# Altium footprint library WE-FI.PcbLib: 47 footprints (part 3 of 3)
Each footprint in its own frame and in the unit in brackets; x right, y up, seen from the top. Pads: shape width x height; smd on the part's side, far side on the other; paste and mask are expansions set on the pad; w line width, h text height; cw(c..) or ccw(c..) is an arc to the next point about the centre after c.
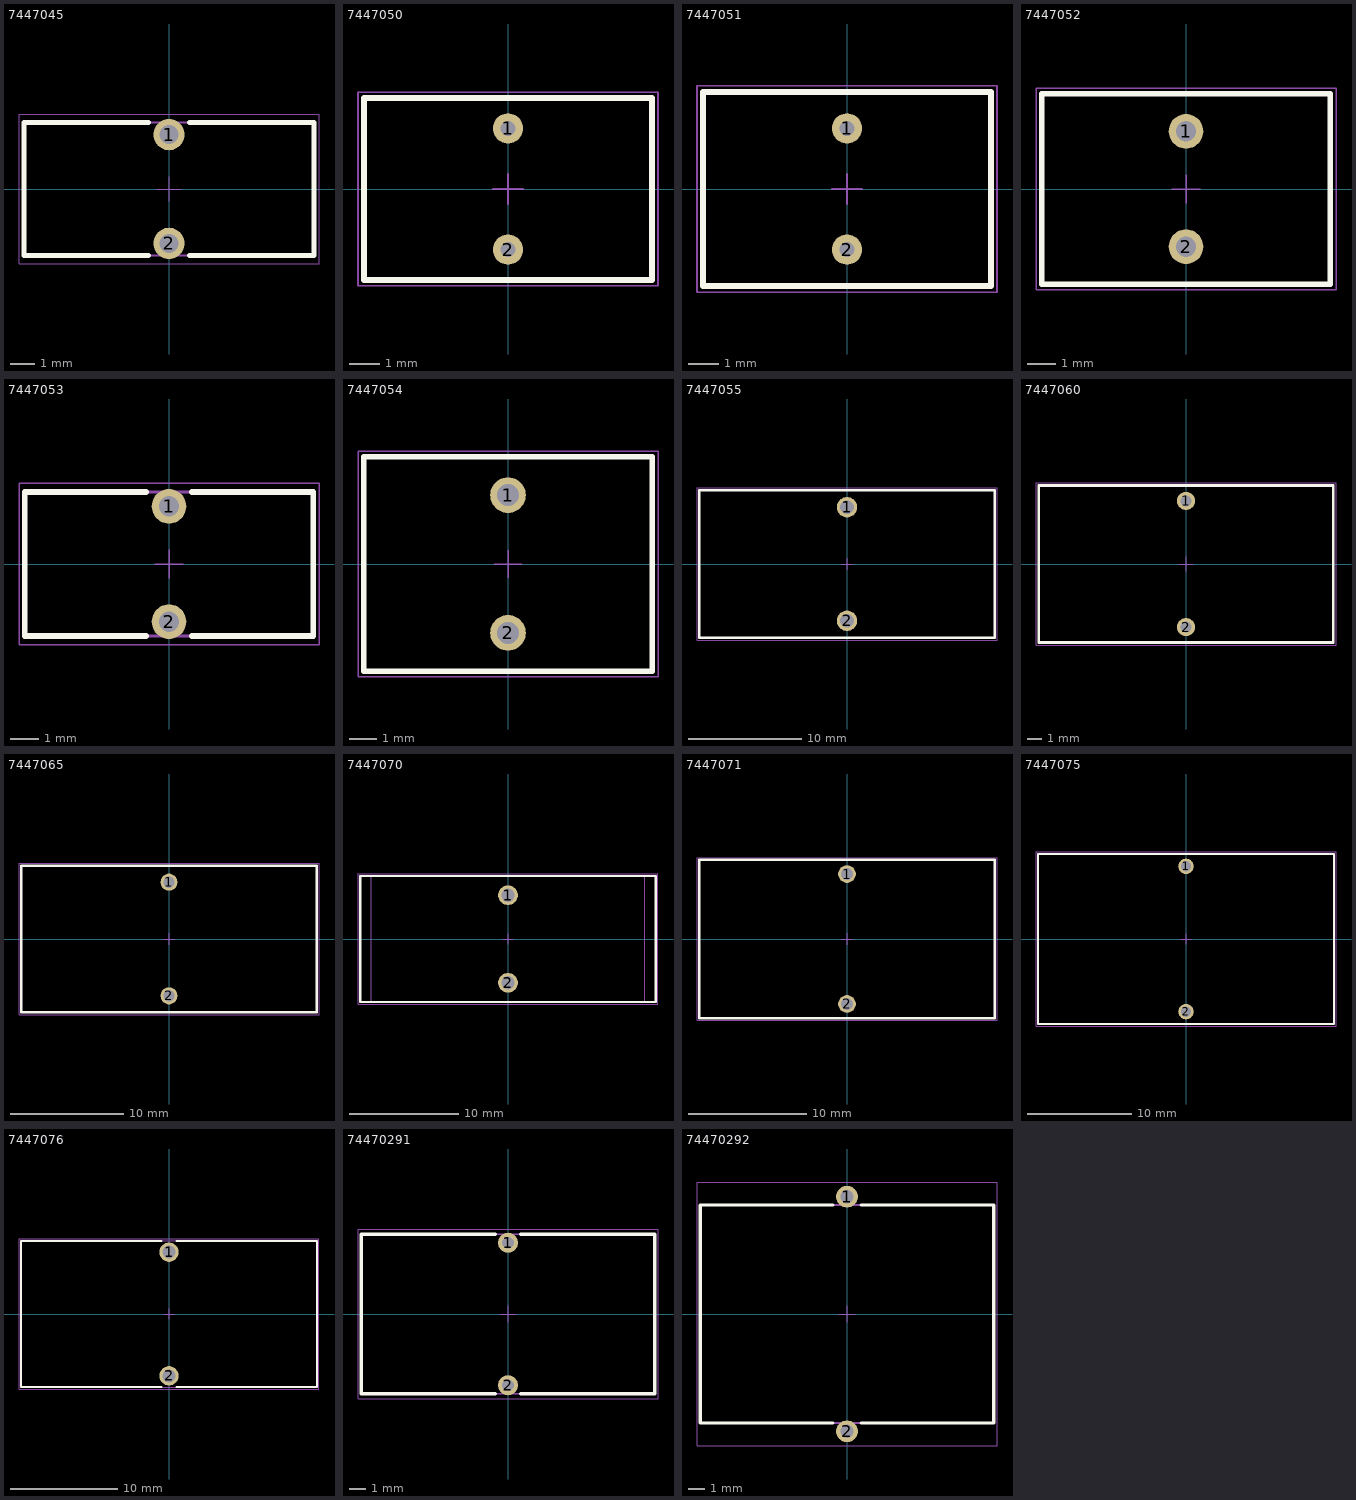
[diagram p2: the footprints below, top view; thin cyan lines are the x and y axes]

## 7447045 [mm] "Leaded Toroidal Line Choke, 2-leads, body 12x5.5mm"
height 12
pads (2):
  round 1.3 hole 0.8: 1(0,2.25) 2(0,-2.25)
Top Overlay:
  lines w0.2: -0.85,-2.75 -6,-2.75 -6,2.75 -0.85,2.75 ; 0.85,-2.75 6,-2.75 6,2.75 0.85,2.75
Top Designator:
  text ".Designator" at -7.498,-0.5 h1.5
Top Component Outline:
  lines w0.1: -6,-2.75 6,-2.75 6,2.75 -6,2.75 -6,-2.75
Top 3D Body:
  lines w0.1: -6,-2.75 -6,2.75 6,2.75 6,-2.75 -6,-2.75
Top Courtyard:
  lines w0.05: -0.5,0 0.5,0 ; 0,-0.5 0,0.5 ; -6.2,-3.1 6.2,-3.1 6.2,3.1 -6.2,3.1 -6.2,-3.1
3D body "7447045.stp": height 10.77, standoff -14.92, extent -5.473,-2.549 5.474,2.55

## 7447050 [mm] "Leaded Toroidal Line Choke, 2-leads, body 9.5x6mm"
height 9.5
pads (2):
  round 1 hole 0.5: 1(0,2) 2(0,-2)
Top Overlay:
  lines w0.2: -4.75,-3 4.75,-3 4.75,3 -4.75,3 -4.75,-3
Top Designator:
  text ".Designator" at -7.498,-0.5 h1.5
Top Component Outline:
  lines w0.1: -4.75,-3 4.75,-3 4.75,3 -4.75,3 -4.75,-3
Top 3D Body:
  lines w0.1: -4.75,-3 -4.75,3 4.75,3 4.75,-3 -4.75,-3
Top Courtyard:
  lines w0.05: -0.5,0 0.5,0 ; 0,-0.5 0,0.5 ; -4.95,-3.2 4.95,-3.2 4.95,3.2 -4.95,3.2 -4.95,-3.2
3D body "7447050.stp": height 8.61, standoff -14.87, extent -4.31,-2.15 4.31,2.15

## 7447051 [mm] "Leaded Toroidal Line Choke, 2-leads, body 9.5x6.4mm"
height 9.5
pads (2):
  round 1 hole 0.5: 1(0,2) 2(0,-2)
Top Overlay:
  lines w0.2: -4.75,-3.2 4.75,-3.2 4.75,3.2 -4.75,3.2 -4.75,-3.2
Top Designator:
  text ".Designator" at -7.498,-0.5 h1.5
Top Component Outline:
  lines w0.1: -4.75,-3.2 -4.75,3.2 4.75,3.2 4.75,-3.2 -4.75,-3.2
Top 3D Body:
  lines w0.1: -4.75,-3.2 4.75,-3.2 4.75,3.2 -4.75,3.2 -4.75,-3.2
Top Courtyard:
  lines w0.05: -0.5,0 0.5,0 ; 0,-0.5 0,0.5 ; -4.95,-3.4 -4.95,3.4 4.95,3.4 4.95,-3.4 -4.95,-3.4
3D body "7447051.stp": height 8.51, standoff -14.97, extent -4.31,-2.15 4.31,2.15

## 7447052 [mm] "Leaded Toroidal Line Choke, 2-leads, body 10x6.6mm"
height 10
pads (2):
  round 1.2 hole 0.7: 1(0,2) 2(0,-2)
Top Overlay:
  lines w0.2: -5,-3.3 5,-3.3 5,3.3 -5,3.3 -5,-3.3
Top Designator:
  text ".Designator" at -7.498,-0.5 h1.5
Top Component Outline:
  lines w0.1: -5,-3.3 -5,3.3 5,3.3 5,-3.3 -5,-3.3
Top 3D Body:
  lines w0.1: -5,-3.3 5,-3.3 5,3.3 -5,3.3 -5,-3.3
Top Courtyard:
  lines w0.05: -0.5,0 0.5,0 ; 0,-0.5 0,0.5 ; -5.2,-3.5 -5.2,3.5 5.2,3.5 5.2,-3.5 -5.2,-3.5
3D body "7447052.stp": height 8.61, standoff -14.84, extent -4.509,-2.249 4.51,2.25

## 7447053 [mm] "Leaded Toroidal Line Choke, 2-leads, body 10x5mm"
height 10
pads (2):
  round 1.2 hole 0.7: 1(0,2) 2(0,-2)
Top Overlay:
  lines w0.2: -0.8,-2.5 -5,-2.5 -5,2.5 -0.8,2.5 ; 0.8,-2.5 5,-2.5 5,2.5 0.8,2.5
Top Designator:
  text ".Designator" at -7.498,-0.5 h1.5
Top Component Outline:
  lines w0.1: -5,-2.5 -5,2.5 5,2.5 5,-2.5 -5,-2.5
Top 3D Body:
  lines w0.1: -5,-2.5 5,-2.5 5,2.5 -5,2.5 -5,-2.5
Top Courtyard:
  lines w0.05: -0.5,0 0.5,0 ; 0,-0.5 0,0.5 ; -5.2,-2.8 -5.2,2.8 5.2,2.8 5.2,-2.8 -5.2,-2.8
3D body "7447053.stp": height 8.71, standoff -14.74, extent -4.509,-2.249 4.51,2.25

## 7447054 [mm] "Leaded Toroidal Line Choke, 2-leads, body 10.5x7.8mm"
height 10.5
pads (2):
  round 1.3 hole 0.8: 1(0,2.5) 2(0,-2.5)
Top Overlay:
  lines w0.2: -5.25,-3.9 5.25,-3.9 5.25,3.9 -5.25,3.9 -5.25,-3.9
Top Designator:
  text ".Designator" at -7.498,-0.5 h1.5
Top Component Outline:
  lines w0.1: -5.25,-3.9 5.25,-3.9 5.25,3.9 -5.25,3.9 -5.25,-3.9
Top 3D Body:
  lines w0.1: -5.25,-3.9 -5.25,3.9 5.25,3.9 5.25,-3.9 -5.25,-3.9
Top Courtyard:
  lines w0.05: -0.5,0 0.5,0 ; 0,-0.5 0,0.5 ; -5.45,-4.1 5.45,-4.1 5.45,4.1 -5.45,4.1 -5.45,-4.1
3D body "7447054.stp": height 8.71, standoff -14.93, extent -4.61,-2.799 4.61,2.8

## 7447055 [mm] "Leaded Toroidal Line Choke, 2-leads, body 26x13mm"
height 26
pads (2):
  round 1.8 hole 1.2: 1(0,5) 2(0,-5)
Top Overlay:
  lines w0.2: -13,-6.5 -13,6.5 13,6.5 13,-6.5 -13,-6.5
Top Designator:
  text ".Designator" at -7.498,-0.5 h1.5
Top Component Outline:
  lines w0.1: -13,-6.5 -13,6.5 13,6.5 13,-6.5 -13,-6.5
Top 3D Body:
  lines w0.1: -13,-6.5 13,-6.5 13,6.5 -13,6.5 -13,-6.5
Top Courtyard:
  lines w0.05: -0.5,0 0.5,0 ; 0,-0.5 0,0.5 ; -13.2,-6.7 -13.2,6.7 13.2,6.7 13.2,-6.7 -13.2,-6.7
3D body "7447055.stp": height 21.91, standoff -14.99, extent -11.209,-5.499 11.209,5.499

## 7447060 [mm] "Leaded Toroidal Line Choke, 2-leads, body 21x11.2mm"
height 21
pads (2):
  round 1.3 hole 0.8: 1(0,4.5) 2(0,-4.5)
Top Overlay:
  lines w0.2: -10.5,-5.6 10.5,-5.6 10.5,5.6 -10.5,5.6 -10.5,-5.6
Top Designator:
  text ".Designator" at -7.498,-0.5 h1.5
Top Component Outline:
  lines w0.1: -10.5,-5.6 10.5,-5.6 10.5,5.6 -10.5,5.6 -10.5,-5.6
Top 3D Body:
  lines w0.1: -10.5,-5.6 -10.5,5.6 10.5,5.6 10.5,-5.6 -10.5,-5.6
Top Courtyard:
  lines w0.05: -0.5,0 0.5,0 ; 0,-0.5 0,0.5 ; -10.7,-5.8 10.7,-5.8 10.7,5.8 -10.7,5.8 -10.7,-5.8
3D body "7447060.stp": height 18.76, standoff -24.85, extent -9.458,-4.799 9.459,4.8

## 7447065 [mm] "Leaded Toroidal Line Choke, 2-leads, body 26x12.9mm"
height 26
pads (2):
  round 1.5 hole 1: 1(0,5) 2(0,-5)
Top Overlay:
  lines w0.2: -13,-6.45 13,-6.45 13,6.45 -13,6.45 -13,-6.45
Top Designator:
  text ".Designator" at -7.498,-0.5 h1.5
Top Component Outline:
  lines w0.1: -13,-6.45 -13,6.45 13,6.45 13,-6.45 -13,-6.45
Top 3D Body:
  lines w0.1: -13,-6.45 13,-6.45 13,6.45 -13,6.45 -13,-6.45
Top Courtyard:
  lines w0.05: -0.5,0 0.5,0 ; 0,-0.5 0,0.5 ; -13.2,-6.65 -13.2,6.65 13.2,6.65 13.2,-6.65 -13.2,-6.65
3D body "7447065.stp": height 22.01, standoff -11.65, extent -11.01,-5.399 11.01,5.399

## 7447070 [mm] "Leaded Toroidal Line Choke, 2-leads, body 25x11.5mm"
height 25
pads (2):
  round 1.8 hole 1.2: 1(0,4) 2(0,-4)
Top Overlay:
  lines w0.2: -13.5,-5.75 13.5,-5.75 13.5,5.75 -13.5,5.75 -13.5,-5.75
Top Designator:
  text ".Designator" at -7.498,-0.5 h1.5
Top Component Outline:
  lines w0.1: -12.5,-5.75 -12.5,5.75 12.5,5.75 12.5,-5.75 -12.5,-5.75
Top 3D Body:
  lines w0.1: -12.5,-5.75 12.5,-5.75 12.5,5.75 -12.5,5.75 -12.5,-5.75
Top Courtyard:
  lines w0.05: -0.5,0 0.5,0 ; 0,-0.5 0,0.5 ; -13.7,-5.95 -13.7,5.95 13.7,5.95 13.7,-5.95 -13.7,-5.95
3D body "7447070.stp": height 22.01, standoff -14.89, extent -11.209,-4.499 11.209,4.499

## 7447071 [mm] "Leaded Toroidal Line Choke, 2-leads, body 25x13.4mm"
height 25
pads (2):
  round 1.5 hole 1: 1(0,5.5) 2(0,-5.5)
Top Overlay:
  lines w0.2: -12.5,-6.7 -12.5,6.7 12.5,6.7 12.5,-6.7 -12.5,-6.7
Top Designator:
  text ".Designator" at -7.498,-0.5 h1.5
Top Component Outline:
  lines w0.1: -12.5,-6.7 -12.5,6.7 12.5,6.7 12.5,-6.7 -12.5,-6.7
Top 3D Body:
  lines w0.1: -12.5,-6.7 12.5,-6.7 12.5,6.7 -12.5,6.7 -12.5,-6.7
Top Courtyard:
  lines w0.05: -0.5,0 0.5,0 ; 0,-0.5 0,0.5 ; -12.7,-6.9 -12.7,6.9 12.7,6.9 12.7,-6.9 -12.7,-6.9
3D body "7447071.stp": height 21.81, standoff -24.85, extent -11.01,-5.899 11.01,5.899

## 7447075 [mm] "Leaded Toroidal Line Choke, 2-leads, body 28.5x16.4mm"
height 28.5
pads (2):
  round 1.5 hole 1: 1(0,7) 2(0,-7)
Top Overlay:
  lines w0.2: -14.25,-8.2 14.25,-8.2 14.25,8.2 -14.25,8.2 -14.25,-8.2
Top Designator:
  text ".Designator" at -7.498,-0.5 h1.5
Top Component Outline:
  lines w0.1: -14.25,-8.2 14.25,-8.2 14.25,8.2 -14.25,8.2 -14.25,-8.2
Top 3D Body:
  lines w0.1: -14.25,-8.2 -14.25,8.2 14.25,8.2 14.25,-8.2 -14.25,-8.2
Top Courtyard:
  lines w0.05: -0.5,0 0.5,0 ; 0,-0.5 0,0.5 ; -14.45,-8.4 14.45,-8.4 14.45,8.4 -14.45,8.4 -14.45,-8.4
3D body "7447075.stp": height 24.86, standoff -24.68, extent -12.359,-7.399 12.358,7.399

## 7447076 [mm] "Leaded Toroidal Line Choke, 2-leads, body 27.5x13.6mm"
height 27.5
pads (2):
  round 1.8 hole 1.2: 1(0,5.75) 2(0,-5.75)
Top Overlay:
  lines w0.2: -0.7,-6.8 -13.75,-6.8 -13.75,6.8 -0.7,6.8 ; 0.7,-6.8 13.75,-6.8 13.75,6.8 0.7,6.8
Top Designator:
  text ".Designator" at -7.498,-0.5 h1.5
Top Component Outline:
  lines w0.1: -13.75,-6.8 13.75,-6.8 13.75,6.8 -13.75,6.8 -13.75,-6.8
Top 3D Body:
  lines w0.1: -13.75,-6.8 -13.75,6.8 13.75,6.8 13.75,-6.8 -13.75,-6.8
Top Courtyard:
  lines w0.05: -0.5,0 0.5,0 ; 0,-0.5 0,0.5 ; -13.95,-7 13.95,-7 13.95,7 -13.95,7 -13.95,-7
3D body "7447076.stp": height 25.06, standoff -14.65, extent -12.56,-6.249 12.559,6.249

## 74470291 [mm] "Leaded Toroidal Line Choke, 2-leads, body 17.5x9.5mm"
height 17.5
pads (2):
  round 1.2 hole 0.7: 1(0,4.25) 2(0,-4.25)
Top Overlay:
  lines w0.2: -0.75,-4.75 -8.75,-4.75 -8.75,4.75 -0.75,4.75 ; 0.75,-4.75 8.75,-4.75 8.75,4.75 0.75,4.75
Top Designator:
  text ".Designator" at -7.498,-0.5 h1.5
Top Component Outline:
  lines w0.1: -8.75,-4.75 8.75,-4.75 8.75,4.75 -8.75,4.75 -8.75,-4.75
Top 3D Body:
  lines w0.1: -8.75,-4.75 -8.75,4.75 8.75,4.75 8.75,-4.75 -8.75,-4.75
Top Courtyard:
  lines w0.05: -0.5,0 0.5,0 ; 0,-0.5 0,0.5 ; -8.95,-5.05 8.95,-5.05 8.95,5.05 -8.95,5.05 -8.95,-5.05
3D body "74470291.stp": height 13.86, standoff -24.96, extent -6.96,-4.499 6.96,4.5

## 74470292 [mm] "Leaded Toroidal Line Choke, 2-leads, body 17.5x13mm"
height 17.5
pads (2):
  round 1.3 hole 0.8: 1(0,7) 2(0,-7)
Top Overlay:
  lines w0.2: -0.85,-6.5 -8.75,-6.5 -8.75,6.5 -0.85,6.5 ; 0.85,-6.5 8.75,-6.5 8.75,6.5 0.85,6.5
Top Designator:
  text ".Designator" at -7.498,-0.5 h1.5
Top Component Outline:
  lines w0.1: -8.75,-6.5 8.75,-6.5 8.75,6.5 -8.75,6.5 -8.75,-6.5
Top 3D Body:
  lines w0.1: -8.75,-6.5 -8.75,6.5 8.75,6.5 8.75,-6.5 -8.75,-6.5
Top Courtyard:
  lines w0.05: -0.5,0 0.5,0 ; 0,-0.5 0,0.5 ; -8.95,-7.875 -8.95,7.875 8.95,7.875 8.95,-7.875 -8.95,-7.875
3D body "74470292.stp": height 17.55, standoff -19.35, extent -8.764,-7.299 8.766,7.3